# EAGLE library part XCR3128XL_TQ (library m-pad-2.1)
Xilinx's XCR3128XL 128 Macrocell CPLD Features: Low power 3.3V 128 macrocell CPLD 6.0 ns pin-to-pin logic delays System frequencies up to 175 MHz 128 macrocells with 3,000 usable gates Available in small footprint packages -144-pin TQFP (108 user I/O pins) - 144-ball CS BGA (108 user I/O) - 100-pin VQFP (84 user I/O) Optimized for 3.3V systems - Ultra low power operation - 5V tolerant I/O pins with 3.3V core supply - Advanced 0.35 micron five layer metal EEPROM process - Fast Zero Power? (FZP) CMOS design technology - 3.3V PCI electrical specification compatible outputs (no internal clamp diode on any input or I/O) Advanced system features - In-system programming - Input registers - Predictable timing model - Up to 23 available clocks per function block - Excellent pin retention during design changes - Full IEEE Standard 1149.1 boundary-scan (JTAG) - Four global clocks - Eight product term control terms per function block Fast ISP programming times Port Enable pin for additional I/O 2.7V to 3.6V supply voltage at industrial temperature range Programmable slew rate control per output Security bit prevents unauthorized access Refer to XPLA3 family data sheet (DS012) for architecture description Description: The XCR3128XL is a 3.3V 128 macrocell CPLD targeted at power sensitive designs that require leading edge programmable logic solutions. A total of eight function blocks provide 3,000 usable gates. Pin-to-pin propagation delays are 6.0 ns with a maximum system frequency of 175 MHz. Please send any comments to: messi@users.sourceforge.net
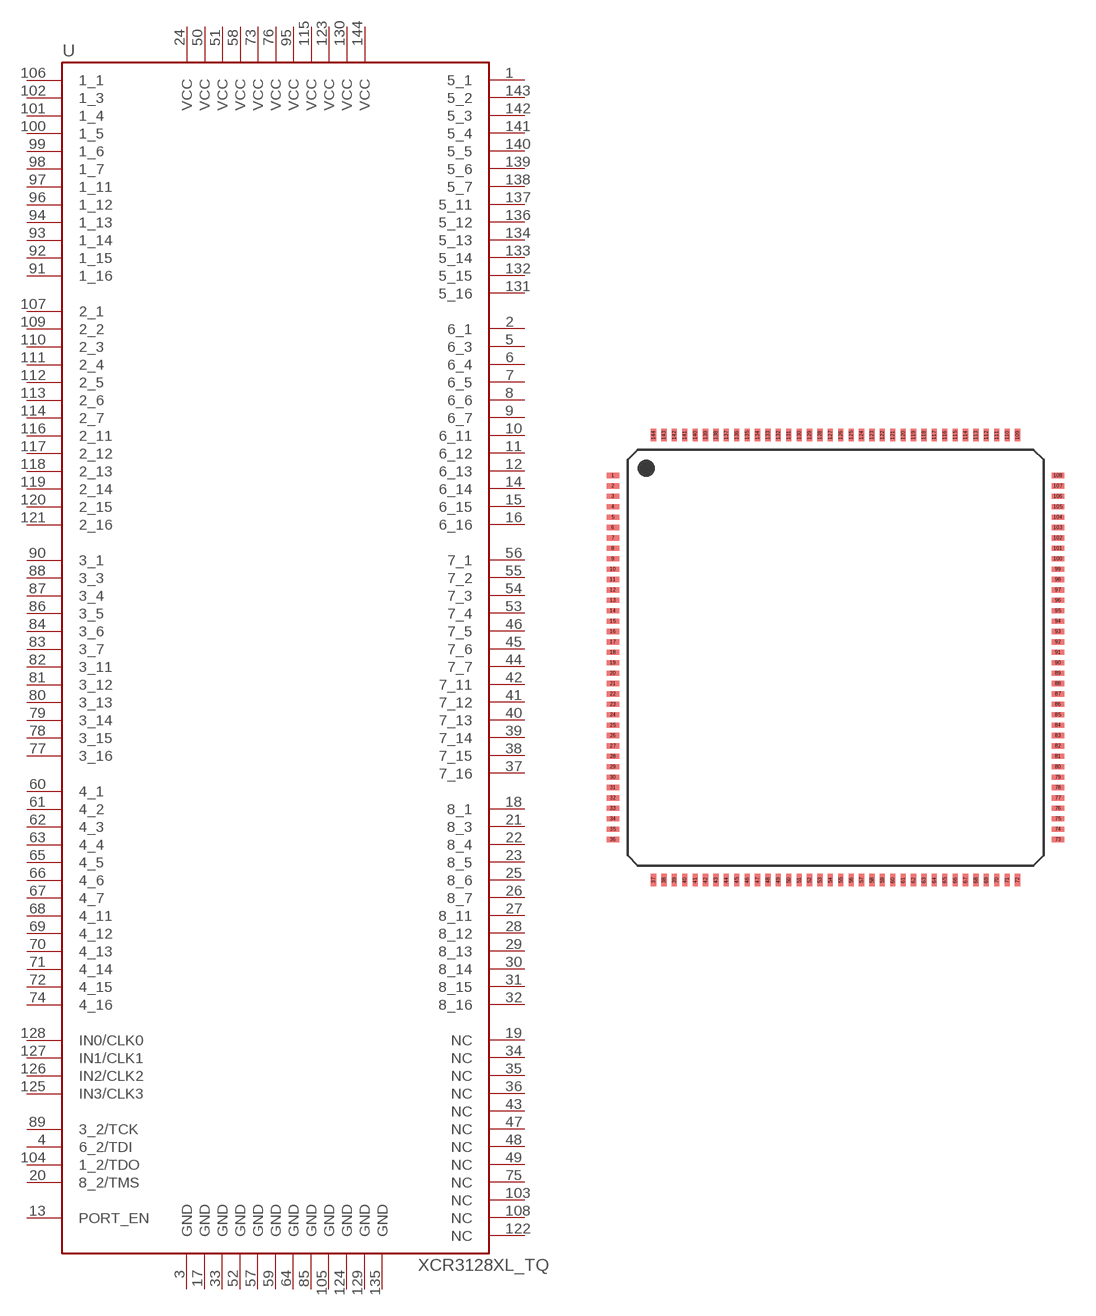
[diagram p33: symbol with the pads of TQFP144; footprint TQFP144]

Designator prefix U

## XCR3128XL_TQ  [TQFP144]
1  5_1
2  6_1
3  GND  pwr
4  6_2/TDI
5  6_3
6  6_4
7  6_5
8  6_6
9  6_7
10  6_11
11  6_12
12  6_13
13  PORT_EN  in
14  6_14
15  6_15
16  6_16
17  GND  pwr
18  8_1
19  NC  nc
20  8_2/TMS
21  8_3
22  8_4
23  8_5
24  VCC  pwr
25  8_6
26  8_7
27  8_11
28  8_12
29  8_13
30  8_14
31  8_15
32  8_16
33  GND  pwr
34  NC  nc
35  NC  nc
36  NC  nc
37  7_16
38  7_15
39  7_14
40  7_13
41  7_12
42  7_11
43  NC  nc
44  7_7
45  7_6
46  7_5
47  NC  nc
48  NC  nc
49  NC  nc
50  VCC  pwr
51  VCC  pwr
52  GND  pwr
53  7_4
54  7_3
55  7_2
56  7_1
57  GND  pwr
58  VCC  pwr
59  GND  pwr
60  4_1
61  4_2
62  4_3
63  4_4
64  GND  pwr
65  4_5
66  4_6
67  4_7
68  4_11
69  4_12
70  4_13
71  4_14
72  4_15
73  VCC  pwr
74  4_16
75  NC  nc
76  VCC  pwr
77  3_16
78  3_15
79  3_14
80  3_13
81  3_12
82  3_11
83  3_7
84  3_6
85  GND  pwr
86  3_5
87  3_4
88  3_3
89  3_2/TCK
90  3_1
91  1_16
92  1_15
93  1_14
94  1_13
95  VCC  pwr
96  1_12
97  1_11
98  1_7
99  1_6
100  1_5
101  1_4
102  1_3
103  NC  nc
104  1_2/TDO
105  GND  pwr
106  1_1
107  2_1
108  NC  nc
109  2_2
110  2_3
111  2_4
112  2_5
113  2_6
114  2_7
115  VCC  pwr
116  2_11
117  2_12
118  2_13
119  2_14
120  2_15
121  2_16
122  NC  nc
123  VCC  pwr
124  GND  pwr
125  IN3/CLK3
126  IN2/CLK2
127  IN1/CLK1
128  IN0/CLK0
129  GND  pwr
130  VCC  pwr
131  5_16
132  5_15
133  5_14
134  5_13
135  GND  pwr
136  5_12
137  5_11
138  5_7
139  5_6
140  5_5
141  5_4
142  5_3
143  5_2
144  VCC  pwr

## Footprint TQFP144 (pad centres in mm)
TQFP (TQ/TQG 100, 144, 176 Pin) Packages and Heat Sink TQFP (HT/HTG 100, 144, 176 Pin) Packages - Pitch: 0.5 mm - Pad-length : 0.6mm - Pad-Width : 0.22mm (0.25) Please send any comments to: messi@users.sourceforge.net
smd 0.6 x 0.25: 1 -10.7,8.75; 2 -10.7,8.25; 3 -10.7,7.75; 4 -10.7,7.25; 5 -10.7,6.75; 6 -10.7,6.25; 7 -10.7,5.75; 8 -10.7,5.25; 9 -10.7,4.75; 10 -10.7,4.25; 11 -10.7,3.75; 12 -10.7,3.25; 13 -10.7,2.75; 14 -10.7,2.25; 15 -10.7,1.75; 16 -10.7,1.25; 17 -10.7,0.75; 18 -10.7,0.25; 19 -10.7,-0.25; 20 -10.7,-0.75; 21 -10.7,-1.25; 22 -10.7,-1.75; 23 -10.7,-2.25; 24 -10.7,-2.75; 25 -10.7,-3.25; 26 -10.7,-3.75; 27 -10.7,-4.25; 28 -10.7,-4.75; 29 -10.7,-5.25; 30 -10.7,-5.75; 31 -10.7,-6.25; 32 -10.7,-6.75; 33 -10.7,-7.25; 34 -10.7,-7.75; 35 -10.7,-8.25; 36 -10.7,-8.75; 73 10.7,-8.75; 74 10.7,-8.25; 75 10.7,-7.75; 76 10.7,-7.25; 77 10.7,-6.75; 78 10.7,-6.25; 79 10.7,-5.75; 80 10.7,-5.25; 81 10.7,-4.75; 82 10.7,-4.25; 83 10.7,-3.75; 84 10.7,-3.25; 85 10.7,-2.75; 86 10.7,-2.25; 87 10.7,-1.75; 88 10.7,-1.25; 89 10.7,-0.75; 90 10.7,-0.25; 91 10.7,0.25; 92 10.7,0.75; 93 10.7,1.25; 94 10.7,1.75; 95 10.7,2.25; 96 10.7,2.75; 97 10.7,3.25; 98 10.7,3.75; 99 10.7,4.25; 100 10.7,4.75; 101 10.7,5.25; 102 10.7,5.75; 103 10.7,6.25; 104 10.7,6.75; 105 10.7,7.25; 106 10.7,7.75; 107 10.7,8.25; 108 10.7,8.75
smd 0.25 x 0.6: 37 -8.75,-10.7; 38 -8.25,-10.7; 39 -7.75,-10.7; 40 -7.25,-10.7; 41 -6.75,-10.7; 42 -6.25,-10.7; 43 -5.75,-10.7; 44 -5.25,-10.7; 45 -4.75,-10.7; 46 -4.25,-10.7; 47 -3.75,-10.7; 48 -3.25,-10.7; 49 -2.75,-10.7; 50 -2.25,-10.7; 51 -1.75,-10.7; 52 -1.25,-10.7; 53 -0.75,-10.7; 54 -0.25,-10.7; 55 0.25,-10.7; 56 0.75,-10.7; 57 1.25,-10.7; 58 1.75,-10.7; 59 2.25,-10.7; 60 2.75,-10.7; 61 3.25,-10.7; 62 3.75,-10.7; 63 4.25,-10.7; 64 4.75,-10.7; 65 5.25,-10.7; 66 5.75,-10.7; 67 6.25,-10.7; 68 6.75,-10.7; 69 7.25,-10.7; 70 7.75,-10.7; 71 8.25,-10.7; 72 8.75,-10.7; 109 8.75,10.7; 110 8.25,10.7; 111 7.75,10.7; 112 7.25,10.7; 113 6.75,10.7; 114 6.25,10.7; 115 5.75,10.7; 116 5.25,10.7; 117 4.75,10.7; 118 4.25,10.7; 119 3.75,10.7; 120 3.25,10.7; 121 2.75,10.7; 122 2.25,10.7; 123 1.75,10.7; 124 1.25,10.7; 125 0.75,10.7; 126 0.25,10.7; 127 -0.25,10.7; 128 -0.75,10.7; 129 -1.25,10.7; 130 -1.75,10.7; 131 -2.25,10.7; 132 -2.75,10.7; 133 -3.25,10.7; 134 -3.75,10.7; 135 -4.25,10.7; 136 -4.75,10.7; 137 -5.25,10.7; 138 -5.75,10.7; 139 -6.25,10.7; 140 -6.75,10.7; 141 -7.25,10.7; 142 -7.75,10.7; 143 -8.25,10.7; 144 -8.75,10.7